# EAGLE library part 691701320009B (library Eagle_WR-TBL Pluggable Connector (rev21a))
WR-TBL Serie 7013 - 3.81 mm Vertical PCB Header THR Type with Flanges KIND PROPERTIES Pitch 3.81 mm MATERIAL PROPERTIES Insulator Material LCP Insulator Flammability Rating UL94 V-0 Contact Material Brass Contact Plating Tin GENERAL INFORMATION Operating Temperature -40 up to +105 °C Compliance RoHS ELECTRICAL PROPERTIES IR cULus 10 A Working Voltage [cULus] 300 V (AC) Withstanding Voltage [cULus] 2500 V (AC) Contact Resistance [cULus] 20 mΩ CERTIFICATION cULus Approval E315414 <https://www.we-online.com/catalog/media/o33329v209%20Family_WR-TBL_6917013200xxB.jpg> Details see: https://www.we-online.com/catalog/en/TBL_3_81_THR_7013_VERTICAL_PCB_HEADER_W_FLANGES_6917013200XXB/ Updated by Ella Wu 2019-12-24 2019(C) Wurth Elektronik
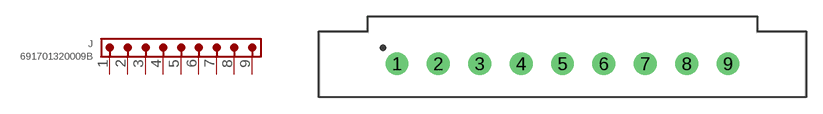
[diagram p142: symbol with the pads of 691701320009B; footprint 691701320009B]

Designator prefix J

## 691701320009B (DATASHEET-URL: https://www.we-online.com/catalog/datasheet/691701320009B.pdf; IR-UL: 10A; MOUNT: THT; PART-NUMBER: 691701320009B; PINS: 9; PITCH: 3.81mm; TYPE: Vertical THR; VALUE: 691701320009B; WORKING-VOLTAGE-UL: 300V (AC))  [691701320009B]
1  1  pas
2  2  pas
3  3  pas
4  4  pas
5  5  pas
6  6  pas
7  7  pas
8  8  pas
9  9  pas

## Footprint 691701320009B (pad centres in mm)
WR-TBL Serie 7013 - 3.81 mm Vertical PCB Header THR Type with Flanges Max Height = 9.2mm , Pitch 3.81mm , 9pins
drill 1.4: 1 -15.24,0; 2 -11.43,0; 3 -7.62,0; 4 -3.81,0; 5 0,0; 6 3.81,0; 7 7.62,0; 8 11.43,0; 9 15.24,0